# EAGLE library part BD62321HFP-TR (library OUTech)
Pont H Source: Datasheet <http://rohmfs.rohm.com/en/products/databook/datasheet/ic/motor/dc/bd62321hfp-e.pdf>
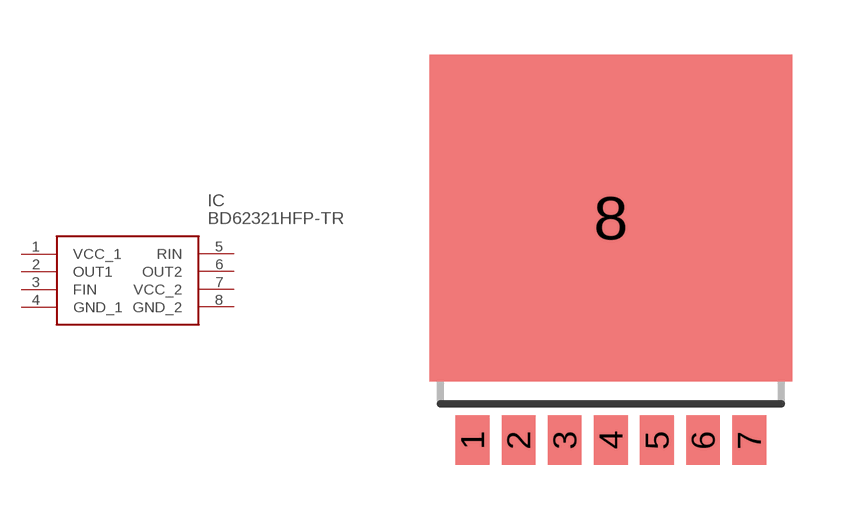
[diagram p1: symbol with the pads of HRP7; footprint HRP7]

Designator prefix IC

## BD62321HFP-TR (DESCRIPTION: H-Bridge motor driver,36V,3A,HRP7 ROHM BD62321HFP-TR Full Bridge Motor Driver 3A, 7-Pin HRP7; HEIGHT: mm; MANUFACTURER_NAME: ROHM Semiconductor; MANUFACTURER_PART_NUMBER: BD62321HFP-TR; MOUSER_PART_NUMBER: 755-BD62321HFP-TR; MOUSER_PRICE-STOCK: https://www.mouser.com/Search/Refine.aspx?Keyword=755-BD62321HFP-TR; RS_PART_NUMBER: 1246483P; RS_PRICE-STOCK: http://uk.rs-online.com/web/p/products/1246483P)  [HRP7]
1  VCC_1
2  OUT1
3  FIN
4  GND_1
5  RIN
6  OUT2
7  VCC_2
8  GND_2

## Footprint HRP7 (pad centres in mm)
HRP7
smd 0.93 x 1.37: 1 -3.81,-9; 2 -2.54,-9; 3 -1.27,-9; 4 0,-9; 5 1.27,-9; 6 2.54,-9; 7 3.81,-9
smd 10 x 9: 8 0,-2.875